# Altium footprint library 4x1_header.PcbLib: 1 footprints
Each footprint in its own frame and in the unit in brackets; x right, y up, seen from the top. Pads: shape width x height; smd on the part's side, far side on the other; paste and mask are expansions set on the pad; w line width, h text height; cw(c..) or ccw(c..) is an arc to the next point about the centre after c.
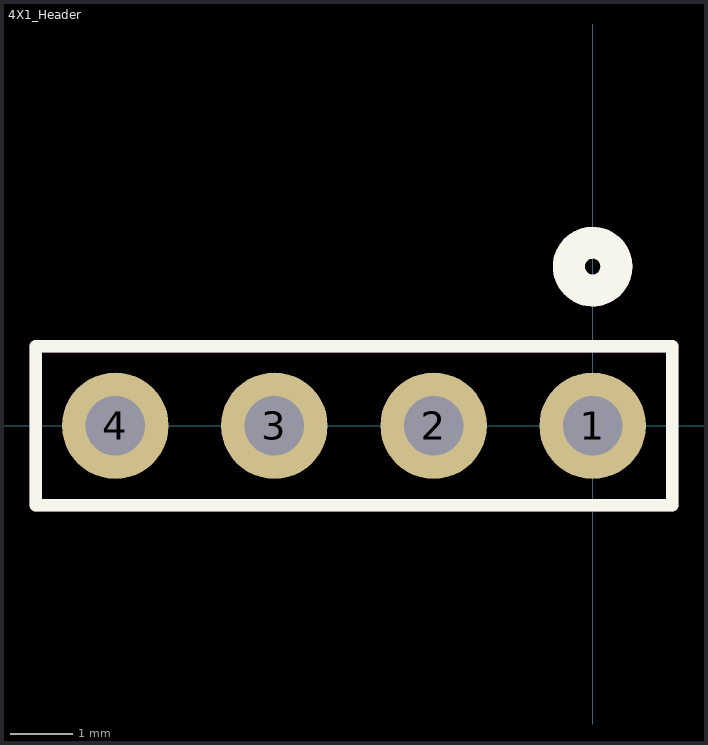
[diagram p0: the footprint, top view; thin cyan lines are the x and y axes]

## 4X1_Header [mm]
pads (4):
  round 1.7 / inner round 1.524 / far side round 0.864 hole 0.95 paste-0.432: 1(0,0) 2(-2.54,0) 3(-5.08,0) 4(-7.62,0)
Top Overlay:
  circle w0.508: c0,2.54 r0.381
  lines w0.2: -8.89,-1.27 1.27,-1.27 1.27,1.27 -8.89,1.27 -8.89,-1.27
Mechanical 1:
  lines w0.2: -8.89,-1.27 1.27,-1.27 1.27,1.27 -8.89,1.27 -8.89,-1.27
Mechanical 13:
  circle w0.508: c0,2.54 r0.381
Mechanical 15:
  lines w0.2: -8.89,-1.27 1.27,-1.27 1.27,1.27 -8.89,1.27 -8.89,-1.27
3D body "4x1_header.stp": height 8.57, standoff -2.97, extent -8.89,-1.27 1.27,1.27